# Altium footprint library AOD4184.PcbLib: 1 footprints
Each footprint in its own frame and in the unit in brackets; x right, y up, seen from the top. Pads: shape width x height; smd on the part's side, far side on the other; paste and mask are expansions set on the pad; w line width, h text height; cw(c..) or ccw(c..) is an arc to the next point about the centre after c.
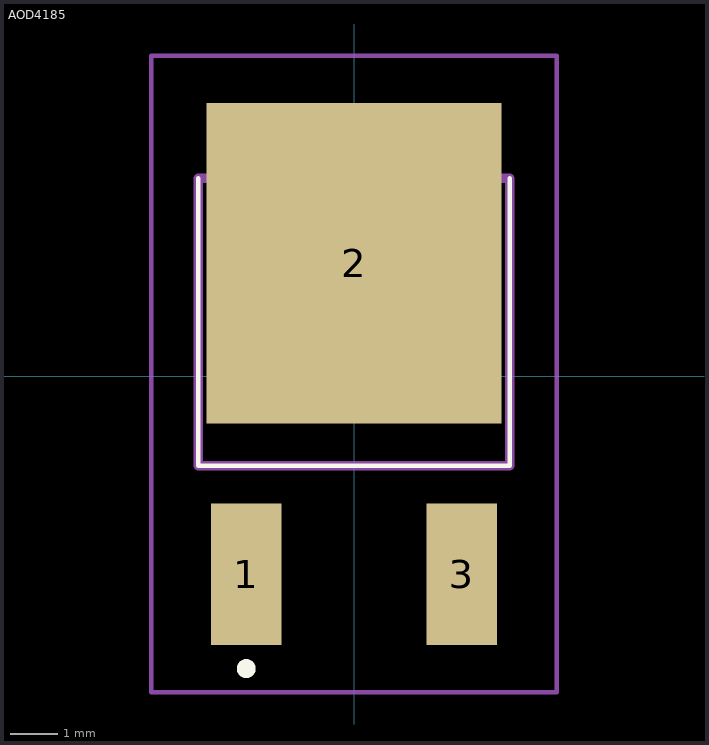
[diagram p0: the footprint, top view; thin cyan lines are the x and y axes]

## AOD4185 [mm]
pads (3):
  rect 1.5x3 smd: 1(-2.286,-4.2) 3(2.286,-4.2)
  rect 6.25x6.8 smd: 2(0,2.4)
Top Overlay:
  lines w0.1: -3.302,4.2 -3.302,-1.8 -3.302,-1.896 3.302,-1.896 3.302,4.2
  lines w0.2: -2.286,-6.3 cw(c-2.286,-6.2) -2.286,-6.1 cw(c-2.286,-6.2) -2.286,-6.3
Mechanical 13:
  lines w0.2: -3.302,-1.896 3.302,-1.896 3.302,4.2 -3.302,4.2 -3.302,-1.896
Mechanical 15:
  lines w0.1: -4.302,-6.7 4.302,-6.7 4.302,6.8 -4.302,6.8 -4.302,-6.7
3D body "mosfet AOD4184A.STEP": height 2.61, standoff 0.01, extent -3.302,-4.953 3.302,5.08